# Altium footprint library ZPWL.PcbLib: 168 footprints (part 5 of 11)
Each footprint in its own frame and in the unit in brackets; x right, y up, seen from the top. Pads: shape width x height; smd on the part's side, far side on the other; paste and mask are expansions set on the pad; w line width, h text height; cw(c..) or ccw(c..) is an arc to the next point about the centre after c.
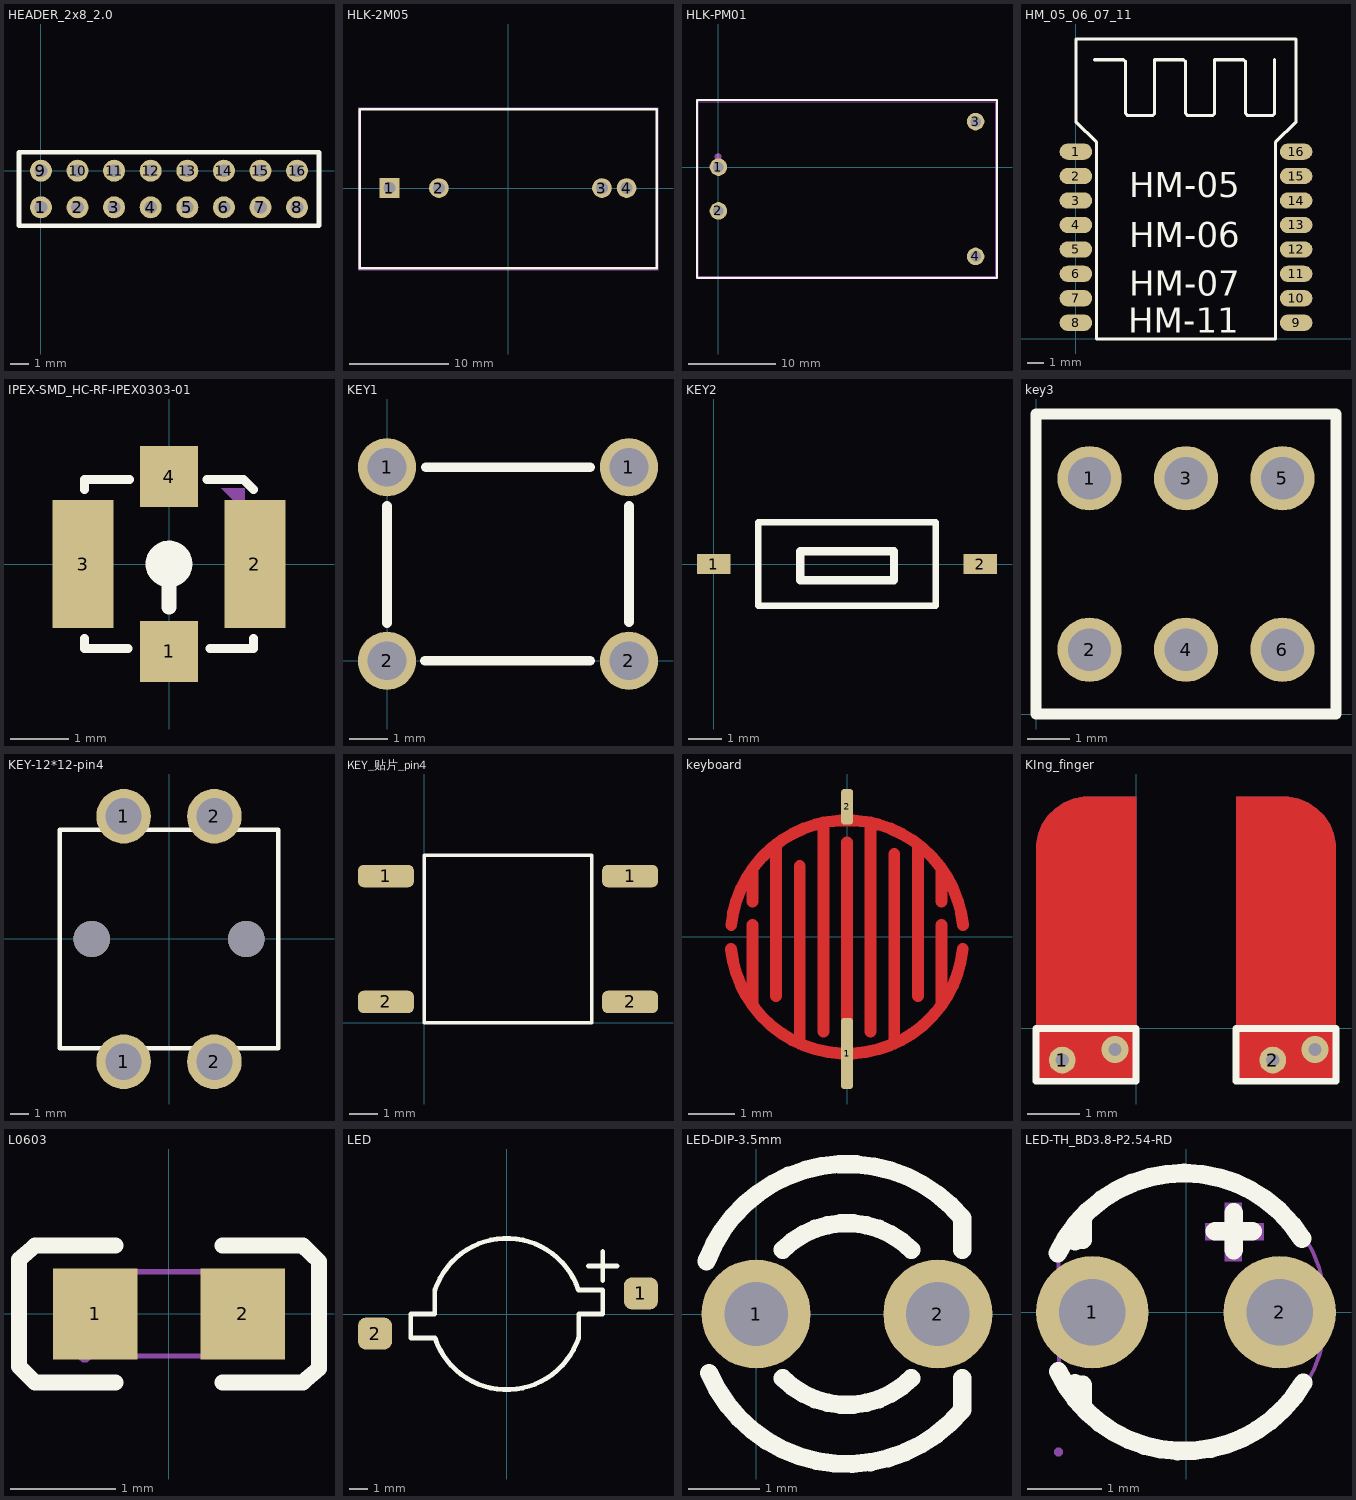
[diagram p4: the footprints below, top view; thin cyan lines are the x and y axes]

## HEADER_2x8_2.0 [mm]
pads (16):
  round 1.2 hole 0.7: 1(0,-2) 2(2,-2) 3(4,-2) 4(6,-2) 5(8,-2) 6(10,-2) 7(12,-2) 8(14,-2) 9(0,0) 10(2,0) 11(4,0) 12(6,0) 13(8,0) 14(10,0) 15(12,0) 16(14,0)
Top Overlay:
  lines w0.254: -1.2,-3 15.2,-3 15.2,1 -1.2,1 -1.2,-3

## HLK-2M05 [mm]
pads (4):
  rect 2x2 hole 1.2: 1(-12,0)
  round 2 hole 1.2: 2(-7,0) 3(9.5,0) 4(12,0)
Top Overlay:
  lines w0.254: 15,8.001 -15,8.001 -15,-8.128 15.051,-8.128 15.051,8.001
Mechanical 15:
  region: -15.067,-8.255 -15.067,-8.23 -15.102,-8.195 -15.152,-8.195 -15.187,-8.23 -15.187,-8.255 -15.187,-8.28 -15.152,-8.315 -15.102,-8.315 -15.067,-8.28 -15.067,-8.255
  region: -11.5,0 -11.5,0.099 -11.576,0.283 -11.717,0.424 -11.901,0.5 -12.099,0.5 -12.283,0.424 -12.424,0.283 -12.5,0.099 -12.5,0 -12.5,-0.099 -12.424,-0.283 -12.283,-0.424 -12.099,-0.5 -11.901,-0.5 -11.717,-0.424 -11.576,-0.283 -11.5,-0.099 -11.5,0
  region: -6.5,0 -6.5,0.099 -6.576,0.283 -6.717,0.424 -6.901,0.5 -7.099,0.5 -7.283,0.424 -7.424,0.283 -7.5,0.099 -7.5,0 -7.5,-0.099 -7.424,-0.283 -7.283,-0.424 -7.099,-0.5 -6.901,-0.5 -6.717,-0.424 -6.576,-0.283 -6.5,-0.099 -6.5,0
  region: 10,0 10,0.099 9.924,0.283 9.783,0.424 9.6,0.5 9.401,0.5 9.217,0.424 9.076,0.283 9,0.099 9,0 9,-0.099 9.076,-0.283 9.217,-0.424 9.401,-0.5 9.6,-0.5 9.783,-0.424 9.924,-0.283 10,-0.099 10,0
  region: 12.5,0 12.5,0.099 12.424,0.283 12.283,0.424 12.099,0.5 11.901,0.5 11.717,0.424 11.576,0.283 11.5,0.099 11.5,0 11.5,-0.099 11.576,-0.283 11.717,-0.424 11.901,-0.5 12.099,-0.5 12.283,-0.424 12.424,-0.283 12.5,-0.099 12.5,0
  lines w0.051: -15.127,-8.255 -15.127,8.128 15.178,8.128 15.178,-8.255 -15.127,-8.255

## HLK-PM01 [mm]
pads (4):
  round 2 hole 1.2 mask+0.051: 1(0,0) 2(0,-5) 3(29.4,5.2) 4(29.4,-10.2)
Top Overlay:
  lines w0.254: -2.445,-12.66 -2.445,7.66 31.845,7.66 31.845,-12.66 -2.445,-12.66
Mechanical 6:
  circle w0.4: c-0.032,1.183 r0.2
Mechanical 15:
  region: 29.8,-10.2 29.8,-10.121 29.739,-9.974 29.627,-9.861 29.48,-9.8 29.32,-9.8 29.173,-9.861 29.061,-9.974 29,-10.121 29,-10.2 29,-10.28 29.061,-10.427 29.173,-10.539 29.32,-10.6 29.48,-10.6 29.627,-10.539 29.739,-10.427 29.8,-10.28
  region: 29.8,5.2 29.8,5.279 29.739,5.426 29.627,5.539 29.48,5.6 29.32,5.6 29.173,5.539 29.061,5.426 29,5.279 29,5.2 29,5.12 29.061,4.973 29.173,4.861 29.32,4.8 29.48,4.8 29.627,4.861 29.739,4.973 29.8,5.12
  region: 0.4,-5 0.4,-4.92 0.339,-4.773 0.227,-4.661 0.08,-4.6 -0.08,-4.6 -0.227,-4.661 -0.339,-4.773 -0.4,-4.92 -0.4,-5 -0.4,-5.08 -0.339,-5.227 -0.227,-5.339 -0.08,-5.4 0.08,-5.4 0.227,-5.339 0.339,-5.227 0.4,-5.08
  region: 0.4,0 0.4,0.08 0.339,0.227 0.227,0.339 0.08,0.4 -0.08,0.4 -0.227,0.339 -0.339,0.227 -0.4,0.08 -0.4,0 -0.4,-0.08 -0.339,-0.227 -0.227,-0.339 -0.08,-0.4 0.08,-0.4 0.227,-0.339 0.339,-0.227 0.4,-0.08
  region: -2.24,7.5 -2.24,7.525 -2.275,7.56 -2.325,7.56 -2.36,7.525 -2.36,7.5 -2.36,7.475 -2.325,7.44 -2.275,7.44 -2.24,7.475
  lines w0.051: -2.3,-12.5 -2.3,7.5 31.7,7.5 31.7,-12.5 -2.3,-12.5
3D body "HLK-PM01.STEP": height 16.6, standoff -1.9, extent -2.304,-12.549 31.696,7.452

## HM_05_06_07_11 [mm]
pads (16):
  oval 2x1 smd: 1(0,11.5) 2(0,10) 3(0,8.5) 4(0,7) 5(0,5.5) 6(0,4) 7(0,2.5) 8(0,1) 9(13.513,1) 10(13.513,2.5) 11(13.513,4) 12(13.513,5.5) 13(13.513,7) 14(13.513,8.5) 15(13.513,10) 16(13.513,11.5)
Top Overlay:
  lines w0.2: 1.143,17.145 2.921,17.145 3.048,17.018 3.048,13.843 3.175,13.716 4.699,13.716 4.826,13.843 4.826,17.145 6.604,17.145 6.731,17.018 6.731,13.843 6.858,13.716 8.382,13.716 8.509,13.843 8.509,17.145 10.287,17.145 10.414,17.018 10.414,13.843 10.541,13.716 12.065,13.716 12.192,13.843 12.192,17.145 ; 0,13.335 1.27,12.065 1.27,0 12.243,0 12.243,12.065 13.513,13.335 13.513,18.415 0,18.415 0,13.335
  text "HM-11" at 3.226,0.381 h1.52
  text "HM-05" at 3.277,8.687 h1.52
  text "HM-06" at 3.277,5.639 h1.52
  text "HM-07" at 3.277,2.642 h1.52

## IPEX-SMD_HC-RF-IPEX0303-01 [mm]
pads (4):
  rect 1x1.05 smd: 1(0,-1.5) 4(0,1.5)
  rect 1.05x2.2 smd: 2(1.475,0) 3(-1.475,0)
Top Overlay:
  circle w0.4: c0,0 r0.2
  lines w0.152: -1.45,-1.28 -1.45,-1.3 -1.45,-1.45 -0.701,-1.45 ; -1.45,1.28 -1.45,1.4 -1.45,1.45 -1.4,1.45 -0.68,1.45 ; 0.65,1.45 1.1,1.45 1.28,1.45 1.45,1.28 1.447,1.28 1.277,1.45 ; 0.701,-1.45 1.097,-1.45 1.45,-1.45 1.45,-1.3 1.45,-1.28
  lines w0.254: 0,-0.744 0,-0.3
Mechanical 15:
  circle w0.4: c0,-1.45 r0.2
  region: 1.3,0.9 1.3,1.3 0.9,1.3

## KEY1 [mil]
pads (4):
  round 60 hole 40: 1(0,200) 1(250,200) 2(0,0) 2(250,0)
Top Overlay:
  lines w10: 0,39 0,160 ; 39,0 210,0 ; 40,200 210,200 ; 250,40 250,160

## KEY2 [mm]
pads (2):
  rect 1x0.6 smd: 1(0,0) 2(8,0)
Top Overlay:
  lines w0.2: 1.335,-1.25 1.335,1.25 4.625,1.25 6.665,1.25 6.665,-1.25 1.335,-1.25
  lines w0.254: 2.591,-0.483 5.41,-0.483 5.41,0.381 2.591,0.381 2.591,-0.483

## key3 [mm]
pads (6):
  round 1.5 hole 1: 1(1.25,5.5) 2(1.25,1.5) 3(3.5,5.5) 4(3.5,1.5) 5(5.75,5.5) 6(5.75,1.5)
Top Overlay:
  lines w0.254: 0,0 0,7 7,7 7,0 0,0

## KEY-12*12-pin4 [mm]
pads (4):
  round 3 hole 2: 1(-2.5,-6.75) 1(-2.5,6.75) 2(2.5,-6.75) 2(2.5,6.75)
via -4.25,0 diameter 2 hole 2
via 4.25,0 diameter 2 hole 2
Top Overlay:
  lines w0.254: -6,-6 -6,6 6,6 6,-6 -6,-6

## KEY_贴片_pin4 [mm]
pads (4):
  rrect50% 2x0.8 smd: 1(-1.366,5.25) 1(7.366,5.25) 2(-1.366,0.75) 2(7.366,0.75)
Top Overlay:
  lines w0.127: 0,0 0,6 6,6 6,0 0,0

## keyboard [mil]
pads (2):
  rrect50% 10x60 smd: 1(0,-98.56)
  rrect50% 10x30 smd: 2(0.06,110)
Top Layer:
  lines w10: -97.99,-10.1 ccw(c-0.06,-0.2) 97.86,-10.09 ; -97.87,9.99 cw(c0.06,0.2) 97.99,10.1 ; -80,-57.62 -80,-40 -80,10.1 ; -80,30 -80,57.45 ; -60,-50 -60,40 -60,78.17 ; -40,-90.16 -40,-60 -40,60 ; -20,-80 -20,80 -20,96.56 ; 0,-98.56 0,-80 0,80 ; 20,-80 20,80 20,96.58 ; 40,-90.1 40,-70 40,70 ; 60,-50 60,60 60,78.27 ; 80,-57.45 80,-30 80,10.1 ; 80,30 80,57.62
Top Solder:
  lines w110: 55,0 cw(c0,0) 55,0.22

## KIng_finger [mil]
pads (2):
  round 20 hole 10: 1(-55.12,-23.62) 2(102.36,-23.62)
via -15.75,-15.75 diameter 20 hole 10
via 133.86,-15.75 diameter 20 hole 10
Top Layer:
  region: -74.8,0 -74.8,133.86 -74.8,137.74 -73.29,145.34 -70.32,152.51 -66.01,158.96 -60.53,164.44 -54.08,168.75 -46.92,171.72 -39.31,173.23 -35.43,173.23 0,173.23 0,0
  region: 74.8,0 149.61,0 149.61,133.86 149.61,137.74 148.09,145.34 145.13,152.51 140.82,158.96 135.33,164.44 128.88,168.75 121.72,171.72 114.11,173.23 110.24,173.23 74.8,173.23
  region: -74.8,-39.37 -74.8,0 0,0 0,-39.37
  region: 74.8,-39.37 74.8,0 149.61,0 149.61,-39.37
Bottom Layer:
  region: -74.8,0 -74.8,133.86 -74.8,137.74 -73.29,145.34 -70.32,152.51 -66.01,158.96 -60.53,164.44 -54.08,168.75 -46.92,171.72 -39.31,173.23 -35.43,173.23 0,173.23 0,0
  region: 74.8,0 149.61,0 149.61,133.86 149.61,137.74 148.09,145.34 145.13,152.51 140.82,158.96 135.33,164.44 128.88,168.75 121.72,171.72 114.11,173.23 110.24,173.23 74.8,173.23
  region: -74.8,-39.37 -74.8,0 0,0 0,-39.37
  region: 74.8,-39.37 74.8,0 149.61,0 149.61,-39.37
Top Overlay:
  lines w5: -74.8,-39.37 -74.8,0 0,0 0,-39.37 -74.8,-39.37 ; 74.8,-39.37 74.8,0 149.61,0 149.61,-39.37 74.8,-39.37

## L0603 [mm]
pads (2):
  rect 0.8x0.864 smd paste-100 mask+0.051: 1(-0.7,0) 2(0.7,0)
Top Overlay:
  lines w0.152: -1.272,-0.65 -0.51,-0.65 ; -1.272,0.65 -0.51,0.65 ; -1.27,-0.651 -1.424,-0.499 -1.424,0.517 -1.27,0.65 ; 0.51,-0.65 1.272,-0.65 ; 0.51,0.65 1.272,0.65 ; 1.27,-0.65 1.424,-0.517 1.424,0.499 1.27,0.65
Top Paste:
  region: 0.264,0.154 0.264,-0.122 0.538,-0.416 1.042,-0.416 1.106,-0.352 1.106,0.384 1.042,0.448 0.538,0.448
  region: -0.252,0.143 -0.252,-0.134 -0.526,-0.427 -1.029,-0.427 -1.093,-0.363 -1.093,0.373 -1.029,0.437 -0.526,0.437
Mechanical 6:
  lines w0.051: -0.8,-0.4 -0.8,0.4 0.8,0.4 0.8,-0.4 -0.8,-0.4
Mechanical 8:
  region: -0.74,-0.4 -0.74,-0.425 -0.775,-0.46 -0.825,-0.46 -0.86,-0.425 -0.86,-0.4 -0.86,-0.375 -0.825,-0.34 -0.775,-0.34 -0.74,-0.375 -0.74,-0.4
Mechanical 9:
  region: -0.5,-0.4 -0.8,-0.4 -0.8,0.4 -0.5,0.4
  region: 0.8,-0.4 0.5,-0.4 0.5,0.4 0.8,0.4
3D body "0603L.STEP": height 2.1, standoff 1.6, extent -0.811,-0.389 0.789,0.411

## LED [mm] "Φ8"
pads (2):
  rrect50% 1.8x1.7 smd: 1(7.097,1.09) 2(-6.964,-1.034)
Top Overlay:
  lines w0.254: -3.81,1.265 -3.81,0 -5.08,0 -5.08,-1.27 -3.793,-1.27 ccw(c0,0) 3.795,-1.265 ; -3.795,1.265 cw(c0,0) 3.793,1.27 5.08,1.27 5.08,0 3.81,0 3.81,-1.265 ; 4.318,2.54 5.842,2.54 ; 5.08,1.778 5.08,3.302

## LED-DIP-3.5mm [mil] "DIP-3.5mm"
pads (2):
  round 60 hole 35: 1(0,0) 2(100,0)
Top Overlay:
  lines w10: -27.25,28.97 cw(c50,0) 113.38,52.82 113.38,35.36 ; -25.83,-32.5 ccw(c50,0) 113.38,-52.82 113.38,-35.36 ; 14.64,-35.36 ccw(c50,0) 85.36,-35.36 ; 14.64,35.36 cw(c50,0) 85.36,35.36
3D body "LED-DIP-3.5mm.STEP": height 207.72, standoff -134.8, extent -26.94,-77.82 113.21,79.6

## LED-TH_BD3.8-P2.54-RD [mil]
pads (2):
  round 60 hole 35.43: 1(-50,0) 2(50,0)
Top Overlay:
  lines w10: -68.39,31.63 cw(c-1.18,0) 61.81,39.37 ; -68.11,-31.5 ccw(c-1.18,0) 62.58,-37.5 ; -59.22,-43.16 -59.22,-37.99 ; -59.22,37.99 -59.22,46.36 ; -55.05,-50.52 -55.05,-38.77 ; -55.05,38.77 -55.05,51.14 ; 15.43,43.31 35.43,43.31 ; 25.43,33.31 25.43,53.31
Mechanical 6:
  region: 20.8,27.29 20.8,58.39 29.85,58.39 29.85,27.29
  region: 10.24,47.64 41.34,47.64 41.34,38.58 10.24,38.58
Mechanical 15:
  region: -40.16,0 -40.18,1.94 -41.7,5.52 -44.47,8.24 -48.06,9.72 -51.94,9.72 -55.53,8.24 -58.3,5.51 -59.82,1.94 -59.84,0 -59.82,-1.94 -58.3,-5.52 -55.53,-8.25 -51.94,-9.72 -48.06,-9.72 -44.46,-8.25 -41.7,-5.52 -40.18,-1.94 -40.16,0
  region: 59.84,0 59.82,1.94 58.3,5.52 55.53,8.24 51.94,9.72 48.06,9.72 44.47,8.24 41.7,5.51 40.18,1.94 40.16,0 40.18,-1.94 41.7,-5.52 44.47,-8.25 48.06,-9.72 51.94,-9.72 55.54,-8.25 58.3,-5.52 59.82,-1.94 59.84,0
  region: -65.64,-74.51 -65.66,-73.55 -67.04,-72.2 -68.96,-72.2 -70.34,-73.55 -70.36,-74.51 -70.34,-75.47 -68.96,-76.82 -67.04,-76.82 -65.66,-75.47 -65.64,-74.51
  lines w2: -68,31.45 cw(c0,0.29) -67.78,-31.34 -68,31.45